# EAGLE library part DIL8 (library NR111D)
Dual In Line / Socket
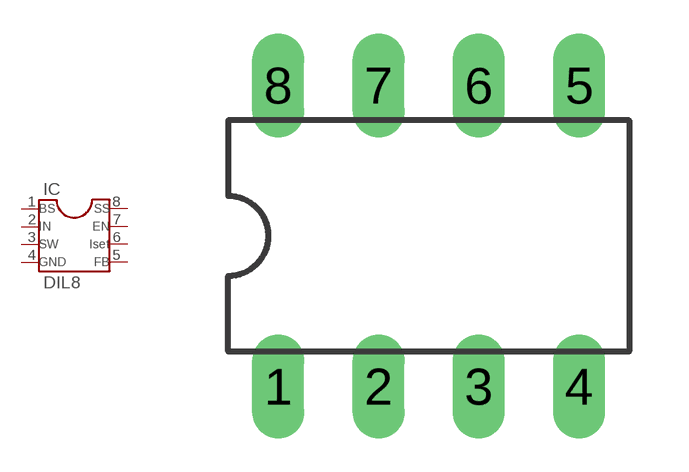
[diagram p0: symbol with the pads of DIL08; footprint DIL08]

Designator prefix IC

## DIL8  [DIL08]
1  BS  pas
2  IN  pas
3  SW  pas
4  GND  pas
5  FB  pas
6  ISET  pas
7  EN  pas
8  SS  pas

## Footprint DIL08 (pad centres in mm)
Dual In Line Package
drill 0.813 long: 1 -3.81,-3.81; 2 -1.27,-3.81; 3 1.27,-3.81; 4 3.81,-3.81; 5 3.81,3.81; 6 1.27,3.81; 7 -1.27,3.81; 8 -3.81,3.81